# Altium integrated library MEKK2520T4R7M.IntLib: 1 symbol
Pins are listed as number, name and electrical type; pins without a type are passive.

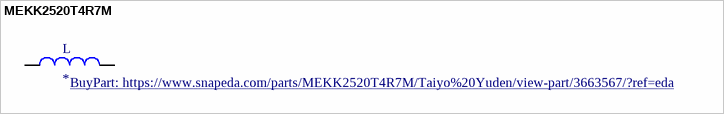
[diagram p0: symbol MEKK2520T4R7M]

## MEKK2520T4R7M
designator L
4.7ÂµH Shielded Wirewound Inductor 1008 (2520 Metric); MF: Taiyo Yuden; MP: MEKK2520T4R7M; Price: None; Availability: Good; SnapEDA_Link: https://www.snapeda.com/parts/MEKK2520T4R7M/Taiyo%20Yuden/view-part/3663567/?ref=snap; Value: *; DigiKey-Purchase-URL: https://snapeda.com/shop?store=DigiKey&id=3663567; Mouser-Purchase-URL: https://snapeda.com/shop?store=Mouser&id=3663567; Package: 2520 Taiyo Yuden; BuyPart: https://www.snapeda.com/parts/MEKK2520T4R7M/Taiyo%20Yuden/view-part/3663567/?ref=eda
footprint INDC2520X100N
pins: 1, 2